# EAGLE library part EP4CE15E22 (library EP4CE6E22C8N)
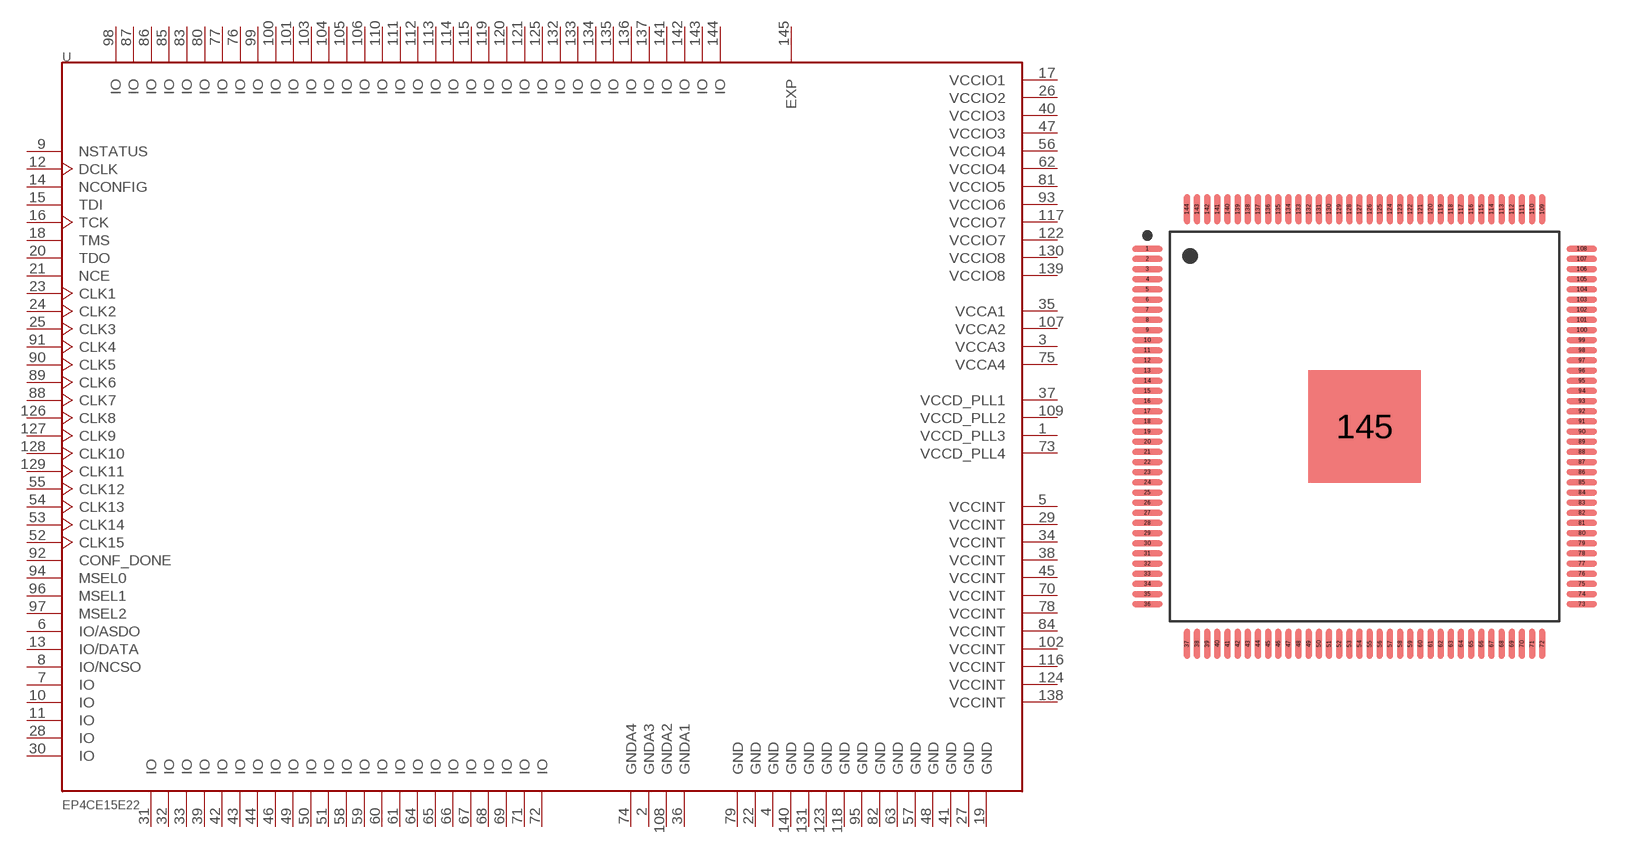
[diagram p1: symbol with the pads of QFP50P2200X2200X165-145N; footprint QFP50P2200X2200X165-145N]

Designator prefix -

## EP4CE15E22  [QFP50P2200X2200X165-145N]
1  VCCD_PLL3  pwr
2  GNDA3  pwr
3  VCCA3  pwr
4  GND  pwr
5  VCCINT  pwr
6  IO/ASDO
7  IO
8  IO/NCSO
9  NSTATUS
10  IO
11  IO
12  DCLK
13  IO/DATA
14  NCONFIG
15  TDI
16  TCK
17  VCCIO1  pwr
18  TMS
19  GND  pwr
20  TDO
21  NCE
22  GND  pwr
23  CLK1  in
24  CLK2  in
25  CLK3  in
26  VCCIO2  pwr
27  GND  pwr
28  IO
29  VCCINT  pwr
30  IO
31  IO
32  IO
33  IO
34  VCCINT  pwr
35  VCCA1  pwr
36  GNDA1  pwr
37  VCCD_PLL1  pwr
38  VCCINT  pwr
39  IO
40  VCCIO3  pwr
41  GND  pwr
42  IO
43  IO
44  IO
45  VCCINT  pwr
46  IO
47  VCCIO3  pwr
48  GND  pwr
49  IO
50  IO
51  IO
52  CLK15
53  CLK14
54  CLK13
55  CLK12
56  VCCIO4  pwr
57  GND  pwr
58  IO
59  IO
60  IO
61  IO
62  VCCIO4  pwr
63  GND  pwr
64  IO
65  IO
66  IO
67  IO
68  IO
69  IO
70  VCCINT  pwr
71  IO
72  IO
73  VCCD_PLL4  pwr
74  GNDA4  pwr
75  VCCA4  pwr
76  IO
77  IO
78  VCCINT  pwr
79  GND  pwr
80  IO
81  VCCIO5  pwr
82  GND  pwr
83  IO
84  VCCINT  pwr
85  IO
86  IO
87  IO
88  CLK7  in
89  CLK6  in
90  CLK5  in
91  CLK4  in
92  CONF_DONE
93  VCCIO6  pwr
94  MSEL0
95  GND  pwr
96  MSEL1
97  MSEL2
98  IO
99  IO
100  IO
101  IO
102  VCCINT  pwr
103  IO
104  IO
105  IO
106  IO
107  VCCA2  pwr
108  GNDA2  pwr
109  VCCD_PLL2  pwr
110  IO
111  IO
112  IO
113  IO
114  IO
115  IO
116  VCCINT  pwr
117  VCCIO7  pwr
118  GND  pwr
119  IO
120  IO
121  IO
122  VCCIO7  pwr
123  GND  pwr
124  VCCINT  pwr
125  IO
126  CLK8
127  CLK9
128  CLK10
129  CLK11
130  VCCIO8  pwr
131  GND  pwr
132  IO
133  IO
134  IO
135  IO
136  IO
137  IO
138  VCCINT  pwr
139  VCCIO8  pwr
140  GND  pwr
141  IO
142  IO
143  IO
144  IO
145  EXP  pwr

## Footprint QFP50P2200X2200X165-145N (pad centres in mm)
smd 1.5 x 0.3: 1 -10.7,8.75; 2 -10.7,8.25; 3 -10.7,7.75; 4 -10.7,7.25; 5 -10.7,6.75; 6 -10.7,6.25; 7 -10.7,5.75; 8 -10.7,5.25; 9 -10.7,4.75; 10 -10.7,4.25; 11 -10.7,3.75; 12 -10.7,3.25; 13 -10.7,2.75; 14 -10.7,2.25; 15 -10.7,1.75; 16 -10.7,1.25; 17 -10.7,0.75; 18 -10.7,0.25; 19 -10.7,-0.25; 20 -10.7,-0.75; 21 -10.7,-1.25; 22 -10.7,-1.75; 23 -10.7,-2.25; 24 -10.7,-2.75; 25 -10.7,-3.25; 26 -10.7,-3.75; 27 -10.7,-4.25; 28 -10.7,-4.75; 29 -10.7,-5.25; 30 -10.7,-5.75; 31 -10.7,-6.25; 32 -10.7,-6.75; 33 -10.7,-7.25; 34 -10.7,-7.75; 35 -10.7,-8.25; 36 -10.7,-8.75; 73 10.7,-8.75; 74 10.7,-8.25; 75 10.7,-7.75; 76 10.7,-7.25; 77 10.7,-6.75; 78 10.7,-6.25; 79 10.7,-5.75; 80 10.7,-5.25; 81 10.7,-4.75; 82 10.7,-4.25; 83 10.7,-3.75; 84 10.7,-3.25; 85 10.7,-2.75; 86 10.7,-2.25; 87 10.7,-1.75; 88 10.7,-1.25; 89 10.7,-0.75; 90 10.7,-0.25; 91 10.7,0.25; 92 10.7,0.75; 93 10.7,1.25; 94 10.7,1.75; 95 10.7,2.25; 96 10.7,2.75; 97 10.7,3.25; 98 10.7,3.75; 99 10.7,4.25; 100 10.7,4.75; 101 10.7,5.25; 102 10.7,5.75; 103 10.7,6.25; 104 10.7,6.75; 105 10.7,7.25; 106 10.7,7.75; 107 10.7,8.25; 108 10.7,8.75
smd 0.3 x 1.5: 37 -8.75,-10.7; 38 -8.25,-10.7; 39 -7.75,-10.7; 40 -7.25,-10.7; 41 -6.75,-10.7; 42 -6.25,-10.7; 43 -5.75,-10.7; 44 -5.25,-10.7; 45 -4.75,-10.7; 46 -4.25,-10.7; 47 -3.75,-10.7; 48 -3.25,-10.7; 49 -2.75,-10.7; 50 -2.25,-10.7; 51 -1.75,-10.7; 52 -1.25,-10.7; 53 -0.75,-10.7; 54 -0.25,-10.7; 55 0.25,-10.7; 56 0.75,-10.7; 57 1.25,-10.7; 58 1.75,-10.7; 59 2.25,-10.7; 60 2.75,-10.7; 61 3.25,-10.7; 62 3.75,-10.7; 63 4.25,-10.7; 64 4.75,-10.7; 65 5.25,-10.7; 66 5.75,-10.7; 67 6.25,-10.7; 68 6.75,-10.7; 69 7.25,-10.7; 70 7.75,-10.7; 71 8.25,-10.7; 72 8.75,-10.7; 109 8.75,10.7; 110 8.25,10.7; 111 7.75,10.7; 112 7.25,10.7; 113 6.75,10.7; 114 6.25,10.7; 115 5.75,10.7; 116 5.25,10.7; 117 4.75,10.7; 118 4.25,10.7; 119 3.75,10.7; 120 3.25,10.7; 121 2.75,10.7; 122 2.25,10.7; 123 1.75,10.7; 124 1.25,10.7; 125 0.75,10.7; 126 0.25,10.7; 127 -0.25,10.7; 128 -0.75,10.7; 129 -1.25,10.7; 130 -1.75,10.7; 131 -2.25,10.7; 132 -2.75,10.7; 133 -3.25,10.7; 134 -3.75,10.7; 135 -4.25,10.7; 136 -4.75,10.7; 137 -5.25,10.7; 138 -5.75,10.7; 139 -6.25,10.7; 140 -6.75,10.7; 141 -7.25,10.7; 142 -7.75,10.7; 143 -8.25,10.7; 144 -8.75,10.7
smd 5.55 x 5.55: 145 0,0